# EAGLE library part 43160-*05 (library con-molex)
SDA-43160 Connector Source: http://www.molex.com/pdm_docs/sd/431601306_sd.pdf
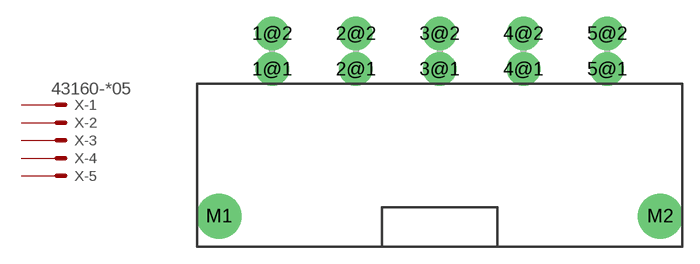
[diagram p196: symbol with the pads of 43160-XX05; footprint 43160-XX05]

Designator prefix X; gates -1=MV2 -2=M2 -3=M2 -4=M2 -5=M2

## 43160-1105 (MF: WALDOM/MOLEX; MPN: 43160-1105; OC_FARNELL: unknown; OC_NEWARK: 54H0258), 43160-1205 (MF: MOLEX; OC_FARNELL: unknown; OC_NEWARK: unknown), 43160-1305 (MF: MOLEX; MPN: 43160-1305; OC_FARNELL: unknown; OC_NEWARK: 92M1483), 43160-1405 (MF: MOLEX; OC_FARNELL: unknown; OC_NEWARK: unknown), 43160-3105 (MF: WALDOM/MOLEX; MPN: 43160-3105; OC_FARNELL: unknown; OC_NEWARK: 54H0267), 43160-3205 (MF: MOLEX; OC_FARNELL: unknown; OC_NEWARK: unknown), 43160-5105 (MF: MOLEX; MPN: 43160-5105; OC_FARNELL: unknown; OC_NEWARK: 92M1496), 43160-5205 (MF: MOLEX; OC_FARNELL: unknown; OC_NEWARK: unknown), 43160-5305 (MF: MOLEX; MPN: 43160-5305; OC_FARNELL: unknown; OC_NEWARK: 92M1501), 43160-5405 (MF: MOLEX; OC_FARNELL: unknown; OC_NEWARK: unknown), 43160-7305 (MF: MOLEX; MPN: 43160-7305; OC_FARNELL: unknown; OC_NEWARK: 92M1510), 43160-7405 (MF: MOLEX; OC_FARNELL: unknown; OC_NEWARK: unknown)  [43160-XX05]
1@1  -1:S  pas
1@2  -1:S  pas
2@1  -2:S  pas
2@2  -2:S  pas
3@1  -3:S  pas
3@2  -3:S  pas
4@1  -4:S  pas
4@2  -4:S  pas
5@1  -5:S  pas
5@2  -5:S  pas

## Footprint 43160-XX05 (pad centres in mm)
7.50mm Pitch Sabre™ Header, Right Angle, 5 Circuits, Glow Wire Capable, PCB Thickness 3.20mm, with Board Lock Datasheet <http://www.molex.com/pdm_docs/sd/431607305_sd.pdf>
drill 1.8 pad 3: 1@1 -14.98,0; 1@2 -14.98,3.18; 2@1 -7.49,0; 2@2 -7.49,3.18; 3@1 0,0; 3@2 0,3.18; 4@1 7.49,0; 4@2 7.49,3.18; 5@1 14.98,0; 5@2 14.98,3.18
drill 3 pad 3.4: M1 -19.73,-13.13; M2 19.73,-13.13